# EAGLE library part LITTLE-USB (library chip45)
littleUSB littleUSB is a universal interface adapter module for connecting microcontrollers, FPGAs, etc. to the USB bus.
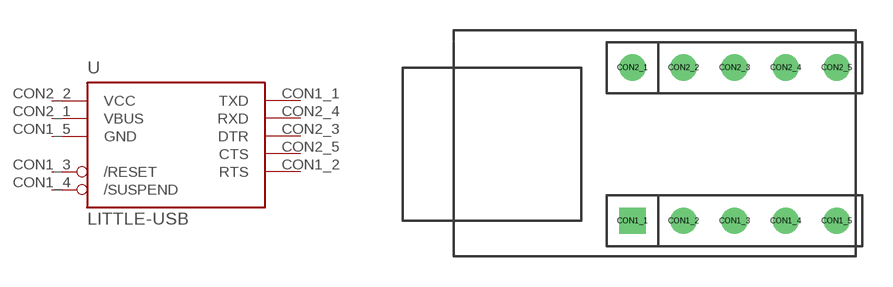
[diagram p10: symbol with the pads of LITTLE-USB; footprint LITTLE-USB]

Designator prefix -

## LITTLE-USB  [LITTLE-USB]
CON1_1  TXD  out
CON1_2  RTS  out
CON1_3  /RESET  in
CON1_4  /SUSPEND  in
CON1_5  GND  pwr
CON2_1  VBUS  in
CON2_2  VCC  pwr
CON2_3  DTR  out
CON2_4  RXD  in
CON2_5  CTS  in

## Footprint LITTLE-USB (pad centres in mm)
littleUSB V1.0 Tiny USB-to-UART Interface Module.
drill 0.8 square: CON1_1 -1.27,-3.81
drill 0.8 round: CON1_2 1.27,-3.81; CON1_3 3.81,-3.81; CON1_4 6.35,-3.81; CON1_5 8.89,-3.81; CON2_1 -1.27,3.81; CON2_2 1.27,3.81; CON2_3 3.81,3.81; CON2_4 6.35,3.81; CON2_5 8.89,3.81